# Altium schematic symbol library BME680.SchLib: 1 symbol
Pins are listed as number, name and electrical type; pins without a type are passive.

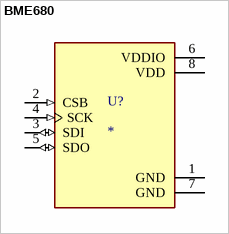
[diagram p0: symbol BME680]

## BME680
designator U?
Integrated Environmental Unit; MF: {'manufacturer': u'Bosch Sensortec'}; MP: BME680; Package: None; Price: None; Value: *; Availability: Unavailable
footprint PSON80P300X300X100-8N
pins: 1 GND (power), 2 CSB (in), 3 SDI (io), 4 SCK (in), 5 SDO (io), 6 VDDIO (power), 7 GND (power), 8 VDD (power)